# EAGLE library part A4982 (library untitled)
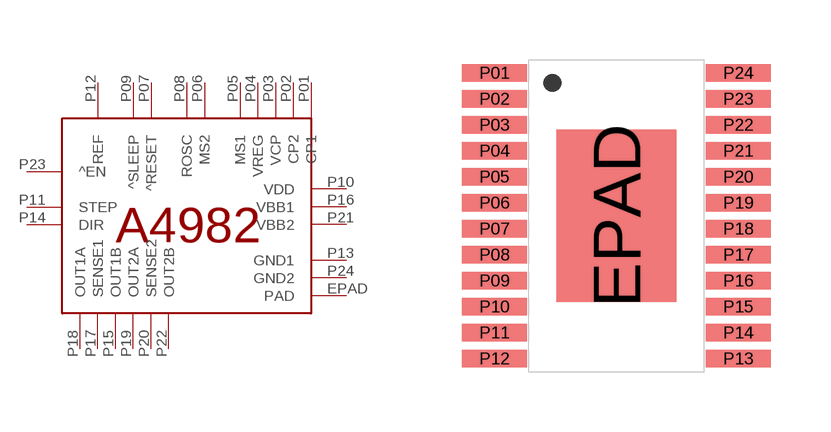
[diagram p0: symbol with the pads of ETSSOP24; footprint ETSSOP24]

Designator prefix -

## A4982  [ETSSOP24]
EPAD  PAD
P01  CP1
P02  CP2
P03  VCP
P04  VREG
P05  MS1
P06  MS2
P07  ^RESET
P08  ROSC
P09  ^SLEEP
P10  VDD
P11  STEP
P12  REF
P13  GND1
P14  DIR
P15  OUT1B
P16  VBB1
P17  SENSE1
P18  OUT1A
P19  OUT2A
P20  SENSE2
P21  VBB2
P22  OUT2B
P23  ^EN
P24  GND2

## Footprint ETSSOP24 (pad centres in mm)
smd 3 x 4.32: EPAD 0,0
smd 1.635 x 0.44: P01 -3.05,3.575; P02 -3.05,2.925; P03 -3.05,2.275; P04 -3.05,1.625; P05 -3.05,0.975; P06 -3.05,0.325; P07 -3.05,-0.325; P08 -3.05,-0.975; P09 -3.05,-1.625; P10 -3.05,-2.275; P11 -3.05,-2.925; P12 -3.05,-3.575; P13 3.05,-3.575; P14 3.05,-2.925; P15 3.05,-2.275; P16 3.05,-1.625; P17 3.05,-0.975; P18 3.05,-0.325; P19 3.05,0.325; P20 3.05,0.975; P21 3.05,1.625; P22 3.05,2.275; P23 3.05,2.925; P24 3.05,3.575